# Altium schematic symbol library ICM-20649.SchLib: 1 symbol
Pins are listed as number, name and electrical type; pins without a type are passive.

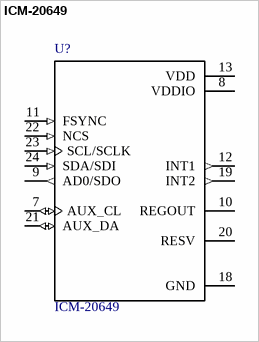
[diagram p0: symbol ICM-20649]

## ICM-20649
designator U?
/ Wide-Range 6-Axis MEMS MotionTracking Device for Sports and High Impact Applications /; MF: TDK InvenSense; MP: ICM-20649; Price: None; SnapEDA_Link: https://www.snapeda.com/parts/ICM-20649/TDK%20InvenSense/view-part/?ref=snap; Package: QFN-24 InvenSense; Availability: Unavailable; Value: *
footprint *QFN40P300X300X95-24N
pins: 7 AUX_CL (io), 8 VDDIO (power), 9 AD0/SDO (out), 10 REGOUT, 11 FSYNC (in), 12 INT1 (out), 13 VDD (power), 18 GND (power), 19 INT2 (out), 20 RESV, 21 AUX_DA (io), 22 NCS (in), 23 SCL/SCLK (in), 24 SDA/SDI (in)